# Altium footprint library Ties_Jumpers.PcbLib: 4 footprints
Each footprint in its own frame and in the unit in brackets; x right, y up, seen from the top. Pads: shape width x height; smd on the part's side, far side on the other; paste and mask are expansions set on the pad; w line width, h text height; cw(c..) or ccw(c..) is an arc to the next point about the centre after c.
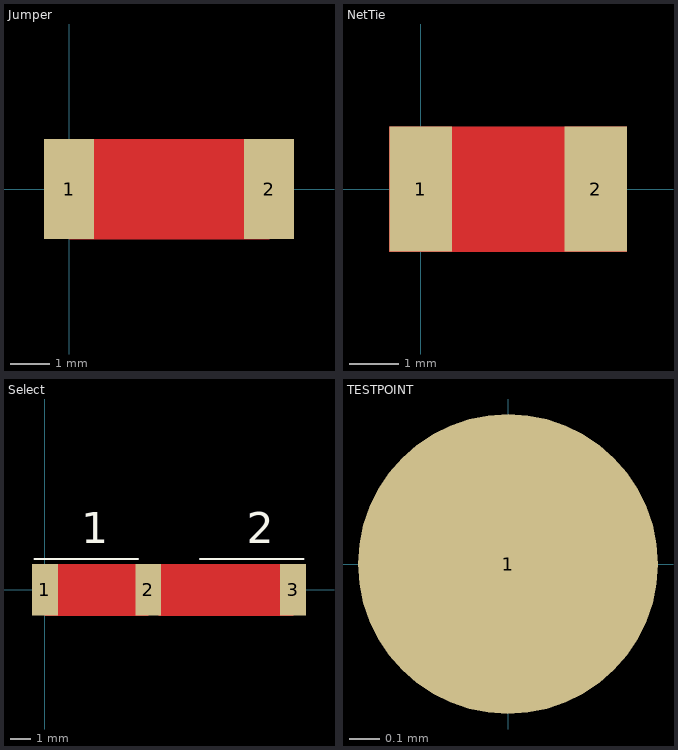
[diagram p0: the footprints below, top view; thin cyan lines are the x and y axes]

## Jumper [mil]
pads (2):
  rect 50x100 smd: 1(0,0) 2(200,0)
Top Layer:
  pour cut-out: 75,50 100,50 150,0 100,-50 75,-50 125,0
  region: 0,-50 0,50 75,50 125,0 75,-50
  region: 100,50 150,0 100,-50 200,-50 200,50

## NetTie [mil]
pads (2):
  rect 50x100 smd: 1(0,0) 2(140,0)
Top Layer:
  region: -25,-50 -25,50 165,50 165,-50

## Select [mil]
pads (3):
  rect 50x100 smd: 1(0,0) 2(200,0) 3(480,0)
Top Layer:
  pour cut-out: 355,50 380,50 430,0 380,-50 355,-50 405,0
  region: 220,-50 220,50 355,50 405,0 355,-50
  region: 380,50 430,0 380,-50 480,-50 480,50
  pour cut-out: 75,50 100,50 150,0 100,-50 75,-50 125,0
  region: 0,-50 0,50 75,50 125,0 75,-50
  region: 100,50 150,0 100,-50 200,-50 200,50
Top Overlay:
  lines w3.94: -20,60 180,60 ; 300,60 500,60
  text "1" at 70,90 h60
  text "2" at 390,90 h60

## TESTPOINT [mm]
pads (1):
  round 1 smd paste+0 mask+0.15: 1(0,0)